# Altium footprint library 2mm-2p.PcbLib: 1 footprints
Each footprint in its own frame and in the unit in brackets; x right, y up, seen from the top. Pads: shape width x height; smd on the part's side, far side on the other; paste and mask are expansions set on the pad; w line width, h text height; cw(c..) or ccw(c..) is an arc to the next point about the centre after c.
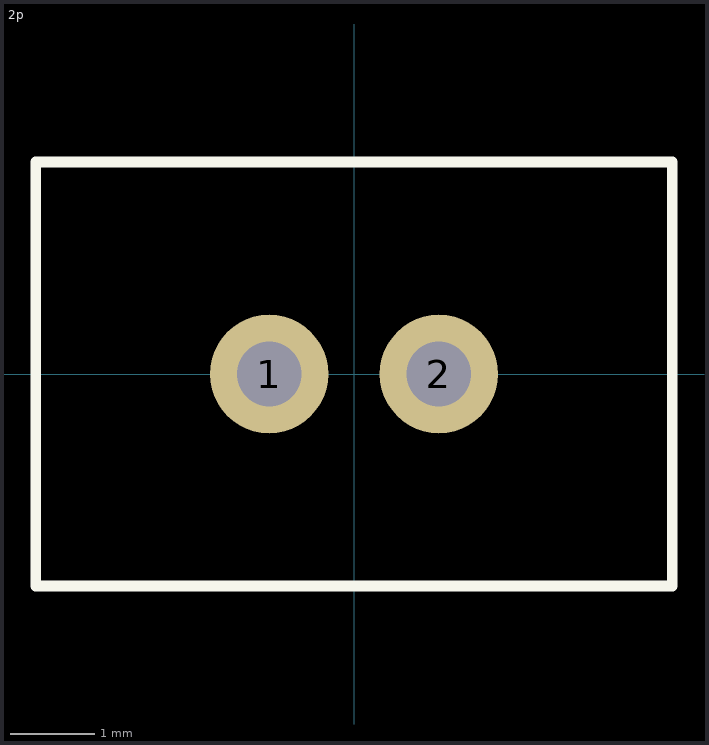
[diagram p0: the footprint, top view; thin cyan lines are the x and y axes]

## 2p [mil]
pads (2):
  round 55 hole 30: 1(-39.37,0) 2(39.37,0)
Top Overlay:
  lines w5: -147.64,-98.43 147.64,-98.43 147.64,98.43 -147.64,98.43 -147.64,-98.43